# Altium schematic symbol library Mounting-Hole-Screw.SchLib: 1 symbol
Pins are listed as number, name and electrical type; pins without a type are passive.

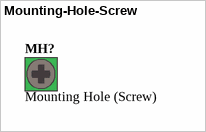
[diagram p0: symbol Mounting-Hole-Screw]

## Mounting-Hole-Screw
designator MH?, comment Mounting Hole (Screw)  (no BOM)
Mounting Hole, M3 Screw
footprint Mounting-Hole-Altium (Mounting Hole, Altium, 3.8mm pad, 3.4mm plated hole)
pins: 1 hidden